# Altium footprint library PCB - CONNECTORS - MOLEX 438600008.PCBLIB: 1 footprints
Each footprint in its own frame and in the unit in brackets; x right, y up, seen from the top. Pads: shape width x height; smd on the part's side, far side on the other; paste and mask are expansions set on the pad; w line width, h text height; cw(c..) or ccw(c..) is an arc to the next point about the centre after c.
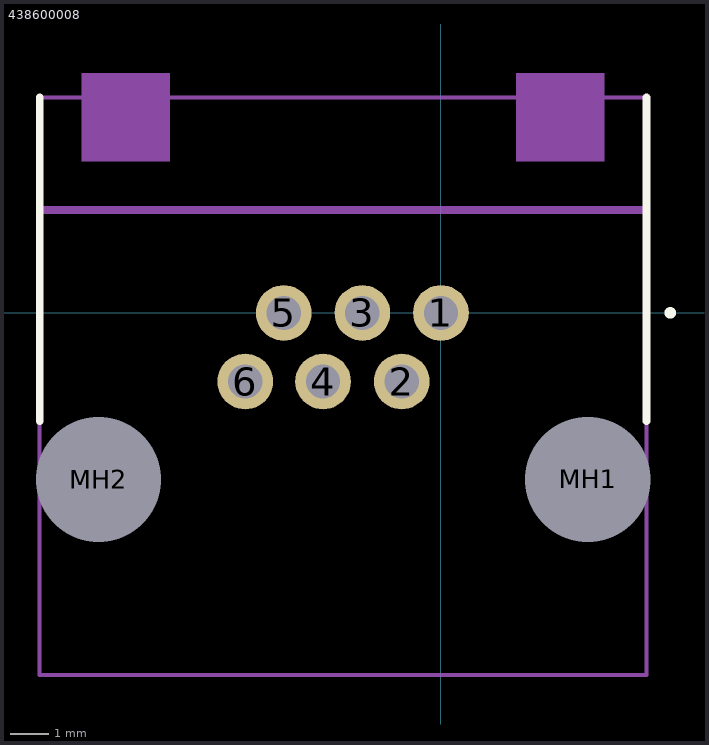
[diagram p0: the footprint, top view; thin cyan lines are the x and y axes]

## 438600008 [mm]
pads (8):
  round 1.446 hole 0.89: 1(0,0) 2(-1.02,-1.78) 3(-2.04,0) 4(-3.06,-1.78) 5(-4.08,0) 6(-5.08,-1.78)
  round 1.625 hole 3.25 unplated: MH1(3.81,-4.32) MH2(-8.89,-4.32)
Top Overlay:
  lines w0.2: -10.415,-2.805 -10.415,5.595 ; 5.335,-2.805 5.335,5.59 ; 5.9,0 ccw(c5.95,0) 6,0 ; 5.9,0 cw(c5.95,0) 6,0 ; 5.9,0 ccw(c5.95,0) 6,0
Top Assembly:
  rectangle: 1.95,3.93 4.25,6.23
  rectangle: -9.33,3.93 -7.03,6.23
  lines w0.2: -10.4,2.67 5.3,2.67
Top Value (Mech13):
  lines w0.1: -10.415,-9.4 5.335,-9.4 5.335,5.59 -10.415,5.59 -10.415,-9.4
3D body "43860-0008.stp": height 13.33, standoff -3.02, extent -10.47,-10.033 5.334,5.588